# Altium footprint library 2020-11-29_00-03-25.PcbLib: 3 footprints
Each footprint in its own frame and in the unit in brackets; x right, y up, seen from the top. Pads: shape width x height; smd on the part's side, far side on the other; paste and mask are expansions set on the pad; w line width, h text height; cw(c..) or ccw(c..) is an arc to the next point about the centre after c.
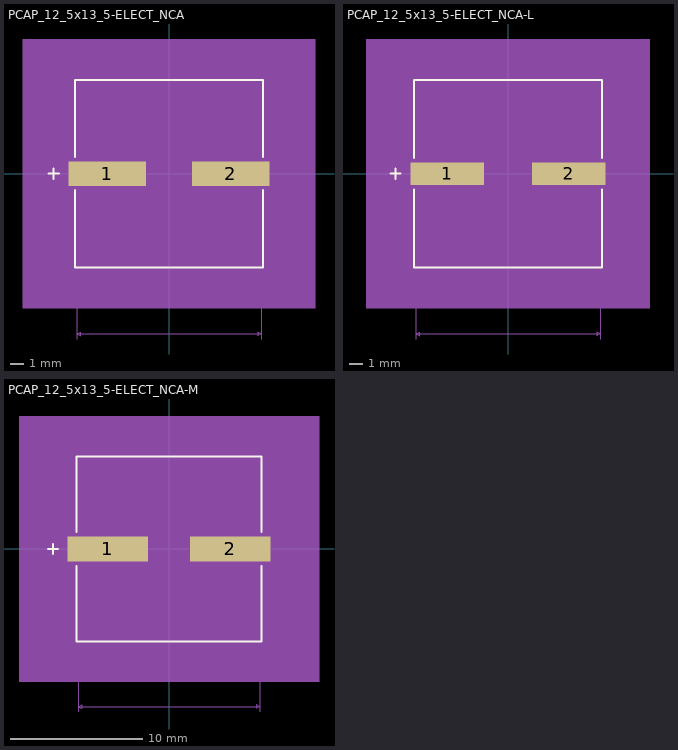
[diagram p0: the footprints below, top view; thin cyan lines are the x and y axes]

## PCAP_12_5x13_5-ELECT_NCA [mil]
pads (2):
  rect 228.5x71 smd paste+0 mask+0: 1(-181.25,0) 2(181.25,0)
Top Overlay:
  lines w6: -354.5,0 -324.5,0 ; -339.5,-15 -339.5,15 ; -276.5,-48.6 -276.5,-276.5 276.5,-276.5 276.5,-48.6 ; -276.5,48.6 -276.5,276.5 276.5,276.5 276.5,48.6
Mechanical 5:
  region: 430.5,-396.5 -430.5,-396.5 -430.5,396.5 430.5,396.5
Mechanical 7:
  lines w1: -386.5,-271.5 -271.5,-271.5 -271.5,-486.5 ; -386.5,271.5 -271.5,271.5 ; -275.5,-386.5 -275.5,-45.5 ; -275.5,45.5 -275.5,386.5 ; -63,-386.5 -63,-25.5 ; 271.5,-486.5 271.5,-271.5 ; 275.5,45.5 275.5,386.5 ; 305.5,-27.5 410.5,-27.5 ; 305.5,27.5 410.5,27.5 ; 395.5,-77.5 395.5,-27.5 ; 395.5,77.5 395.5,27.5 ; -371.5,-271.5 -371.5,271.5 ; -371.5,-271.5 -376.5,-261.5 -366.5,-261.5 -371.5,-271.5 ; -371.5,271.5 -376.5,261.5 -366.5,261.5 -371.5,271.5 ; -275.5,-371.5 -63,-371.5 ; -275.5,-371.5 -265.5,-366.5 -265.5,-376.5 -275.5,-371.5 ; -275.5,371.5 275.5,371.5 ; -275.5,371.5 -265.5,376.5 -265.5,366.5 -275.5,371.5 ; -271.5,-471.5 271.5,-471.5 ; -271.5,-471.5 -261.5,-466.5 -261.5,-476.5 -271.5,-471.5 ; -63,-371.5 -73,-366.5 -73,-376.5 -63,-371.5 ; 271.5,-471.5 261.5,-466.5 261.5,-476.5 271.5,-471.5 ; 275.5,371.5 265.5,376.5 265.5,366.5 275.5,371.5 ; 395.5,-27.5 390.5,-37.5 400.5,-37.5 395.5,-27.5 ; 395.5,27.5 390.5,37.5 400.5,37.5 395.5,27.5
  text "Default Padstyle: RX228p5Y71D0T" at -387.5,-439.5 h50
  text "Alternate 1 Padstyle: OX60Y90D30P" at -412.5,-539.5 h50
  text "Alternate 2 Padstyle: OX90Y60D30P" at -412.5,-639.5 h50
  text "0.055in/1.397mm" at 415.5,-12.5 h25
  text "0.551in/13.995mm" at -100,391.5 h25
  text "0.543in/13.792mm" at -591.5,-12.5 h25
  text "0.197in/5.004mm" at -263,-416.5 h25
  text "0.543in/13.792mm" at -100,-516.5 h25
Mechanical 13:
  lines w1: -354.5,0 -324.5,0 ; -339.5,-15 -339.5,15 ; -271.5,-135.75 -135.75,-271.5 ; -271.5,135.75 -135.75,271.5 ; -271.5,-271.5 271.5,-271.5 271.5,271.5 -271.5,271.5 -271.5,-271.5
Mechanical 15:
  region: -281.5,-45.5 -305.5,-45.5 -305.5,45.5 -281.5,45.5 -281.5,281.5 281.5,281.5 281.5,45.5 305.5,45.5 305.5,-45.5 281.5,-45.5 281.5,-281.5 -281.5,-281.5
  lines w6: -305.5,-45.5 -305.5,45.5 -281.5,45.5 -281.5,281.5 281.5,281.5 281.5,45.5 305.5,45.5 305.5,-45.5 281.5,-45.5 281.5,-281.5 -281.5,-281.5 -281.5,-45.5 -305.5,-45.5
3D body: height 10, standoff 0, extent 0,0 10,10

## PCAP_12_5x13_5-ELECT_NCA-L [mil]
pads (2):
  rect 216.5x67 smd paste+0 mask+0: 1(-179.25,0) 2(179.25,0)
Top Overlay:
  lines w6: -346.5,0 -316.5,0 ; -331.5,-15 -331.5,15 ; -276.5,-46.6 -276.5,-276.5 276.5,-276.5 276.5,-46.6 ; -276.5,46.6 -276.5,276.5 276.5,276.5 276.5,46.6
Mechanical 5:
  region: 416.5,-396.5 -416.5,-396.5 -416.5,396.5 416.5,396.5
Mechanical 7:
  lines w1: -386.5,-271.5 -271.5,-271.5 -271.5,-486.5 ; -386.5,271.5 -271.5,271.5 ; -275.5,-386.5 -275.5,-43.5 ; -275.5,43.5 -275.5,386.5 ; -63,-386.5 -63,-23.5 ; 271.5,-486.5 271.5,-271.5 ; 275.5,43.5 275.5,386.5 ; 297.5,-27.5 402.5,-27.5 ; 297.5,27.5 402.5,27.5 ; 387.5,-77.5 387.5,-27.5 ; 387.5,77.5 387.5,27.5 ; -371.5,-271.5 -371.5,271.5 ; -371.5,-271.5 -376.5,-261.5 -366.5,-261.5 -371.5,-271.5 ; -371.5,271.5 -376.5,261.5 -366.5,261.5 -371.5,271.5 ; -275.5,-371.5 -63,-371.5 ; -275.5,-371.5 -265.5,-366.5 -265.5,-376.5 -275.5,-371.5 ; -275.5,371.5 275.5,371.5 ; -275.5,371.5 -265.5,376.5 -265.5,366.5 -275.5,371.5 ; -271.5,-471.5 271.5,-471.5 ; -271.5,-471.5 -261.5,-466.5 -261.5,-476.5 -271.5,-471.5 ; -63,-371.5 -73,-366.5 -73,-376.5 -63,-371.5 ; 271.5,-471.5 261.5,-466.5 261.5,-476.5 271.5,-471.5 ; 275.5,371.5 265.5,376.5 265.5,366.5 275.5,371.5 ; 387.5,-27.5 382.5,-37.5 392.5,-37.5 387.5,-27.5 ; 387.5,27.5 382.5,37.5 392.5,37.5 387.5,27.5
  text "Default Padstyle: RX216p5Y67D0T" at -387.5,-441.5 h50
  text "Alternate 1 Padstyle: OX60Y90D30P" at -412.5,-541.5 h50
  text "Alternate 2 Padstyle: OX90Y60D30P" at -412.5,-641.5 h50
  text "0.055in/1.397mm" at 407.5,-12.5 h25
  text "0.551in/13.995mm" at -100,391.5 h25
  text "0.543in/13.792mm" at -591.5,-12.5 h25
  text "0.197in/5.004mm" at -263,-416.5 h25
  text "0.543in/13.792mm" at -100,-516.5 h25
Mechanical 13:
  lines w1: -346.5,0 -316.5,0 ; -331.5,-15 -331.5,15 ; -271.5,-135.75 -135.75,-271.5 ; -271.5,135.75 -135.75,271.5 ; -271.5,-271.5 271.5,-271.5 271.5,271.5 -271.5,271.5 -271.5,-271.5
Mechanical 15:
  region: -275.5,-37.5 -291.5,-37.5 -291.5,37.5 -275.5,37.5 -275.5,275.5 275.5,275.5 275.5,37.5 291.5,37.5 291.5,-37.5 275.5,-37.5 275.5,-275.5 -275.5,-275.5
  lines w6: -291.5,-37.5 -291.5,37.5 -275.5,37.5 -275.5,275.5 275.5,275.5 275.5,37.5 291.5,37.5 291.5,-37.5 275.5,-37.5 275.5,-275.5 -275.5,-275.5 -275.5,-37.5 -291.5,-37.5
3D body: height 10, standoff 0, extent 0,0 10,10

## PCAP_12_5x13_5-ELECT_NCA-M [mil]
pads (2):
  rect 240.5x75 smd paste+0 mask+0: 1(-183.25,0) 2(183.25,0)
Top Overlay:
  lines w6: -362.5,0 -332.5,0 ; -347.5,-15 -347.5,15 ; -276.5,-50.6 -276.5,-276.5 276.5,-276.5 276.5,-50.6 ; -276.5,50.6 -276.5,276.5 276.5,276.5 276.5,50.6
Mechanical 5:
  region: 448.5,-396.5 -448.5,-396.5 -448.5,396.5 448.5,396.5
Mechanical 7:
  lines w1: -386.5,-271.5 -271.5,-271.5 -271.5,-486.5 ; -386.5,271.5 -271.5,271.5 ; -275.5,-386.5 -275.5,-47.5 ; -275.5,47.5 -275.5,386.5 ; -63,-386.5 -63,-27.5 ; 271.5,-486.5 271.5,-271.5 ; 275.5,47.5 275.5,386.5 ; 313.5,-27.5 418.5,-27.5 ; 313.5,27.5 418.5,27.5 ; 403.5,-77.5 403.5,-27.5 ; 403.5,77.5 403.5,27.5 ; -371.5,-271.5 -371.5,271.5 ; -371.5,-271.5 -376.5,-261.5 -366.5,-261.5 -371.5,-271.5 ; -371.5,271.5 -376.5,261.5 -366.5,261.5 -371.5,271.5 ; -275.5,-371.5 -63,-371.5 ; -275.5,-371.5 -265.5,-366.5 -265.5,-376.5 -275.5,-371.5 ; -275.5,371.5 275.5,371.5 ; -275.5,371.5 -265.5,376.5 -265.5,366.5 -275.5,371.5 ; -271.5,-471.5 271.5,-471.5 ; -271.5,-471.5 -261.5,-466.5 -261.5,-476.5 -271.5,-471.5 ; -63,-371.5 -73,-366.5 -73,-376.5 -63,-371.5 ; 271.5,-471.5 261.5,-466.5 261.5,-476.5 271.5,-471.5 ; 275.5,371.5 265.5,376.5 265.5,366.5 275.5,371.5 ; 403.5,-27.5 398.5,-37.5 408.5,-37.5 403.5,-27.5 ; 403.5,27.5 398.5,37.5 408.5,37.5 403.5,27.5
  text "Default Padstyle: RX240p5Y75D0T" at -387.5,-437.5 h50
  text "Alternate 1 Padstyle: OX60Y90D30P" at -412.5,-537.5 h50
  text "Alternate 2 Padstyle: OX90Y60D30P" at -412.5,-637.5 h50
  text "0.055in/1.397mm" at 423.5,-12.5 h25
  text "0.551in/13.995mm" at -100,391.5 h25
  text "0.543in/13.792mm" at -591.5,-12.5 h25
  text "0.197in/5.004mm" at -263,-416.5 h25
  text "0.543in/13.792mm" at -100,-516.5 h25
Mechanical 13:
  lines w1: -362.5,0 -332.5,0 ; -347.5,-15 -347.5,15 ; -271.5,-135.75 -135.75,-271.5 ; -271.5,135.75 -135.75,271.5 ; -271.5,-271.5 271.5,-271.5 271.5,271.5 -271.5,271.5 -271.5,-271.5
Mechanical 15:
  region: -291.5,-57.5 -323.5,-57.5 -323.5,57.5 -291.5,57.5 -291.5,291.5 291.5,291.5 291.5,57.5 323.5,57.5 323.5,-57.5 291.5,-57.5 291.5,-291.5 -291.5,-291.5
  lines w6: -323.5,-57.5 -323.5,57.5 -291.5,57.5 -291.5,291.5 291.5,291.5 291.5,57.5 323.5,57.5 323.5,-57.5 291.5,-57.5 291.5,-291.5 -291.5,-291.5 -291.5,-57.5 -323.5,-57.5
3D body: height 10, standoff 0, extent 0,0 10,10